# Altium schematic symbol library MOS motor driving module .SCHLIB: 17 symbols
Pins are listed as number, name and electrical type; pins without a type are passive.

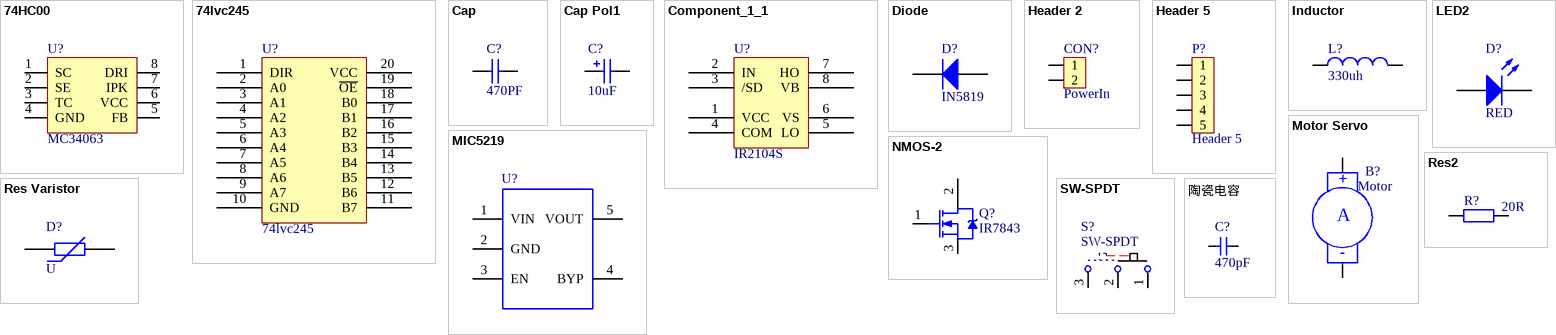
[diagram p0: symbols 74HC00 to 陶瓷电容]

## 74HC00
designator U?, comment MC34063
footprint MC34063
pins: 1 SC, 2 SE, 3 TC, 4 GND, 5 FB, 6 VCC, 7 IPK, 8 DRI

## 74lvc245
designator U?
8位5伏转3.3伏电平转换芯片
footprint 74lvc245 TSSOP
pins: 1 DIR, 2 A0, 3 A1, 4 A2, 5 A3, 6 A4, 7 A5, 8 A6, 9 A7, 10 GND, 11 B7, 12 B6, 13 B5, 14 B4, 15 B3, 16 B2, 17 B1, 18 B0, 19 ~{OE}, 20 VCC

## Cap
designator C?  value 470PF  (hidden comment: Cap)
Capacitor; Published: 8-Jun-2000; LatestRevisionDate: 17-Jul-2002; LatestRevisionNote: Re-released for DXP Platform.; PackageReference: RAD-0.3; Publisher: Altium Limited; PackageDescription: Radial Cap, Thru-Hole; 2 Leads; 0.3 in Pin Spacing
simulation model CAP (Capacitor)
signal-integrity model Cap
footprint 0805(2012)
pins: 1, 2

## Cap Pol1
designator C?  value 10uF  (hidden comment: Cap Pol1)
Polarized Capacitor (Radial); Published: 8-Jun-2000; LatestRevisionDate: 17-Jul-2002; LatestRevisionNote: Re-released for DXP Platform.; PackageReference: RB7.6-15; Publisher: Altium Limited; PackageDescription: Polarized Capacitor (Radial); 2 Leads
simulation model CAP (Capacitor)
signal-integrity model Cap Pol
footprint 1206C
pins: 1, 2
1 alternate drawing of the same symbol

## Component_1_1
designator U?, comment IR2104S
footprint IR2104 (SOIC, 8-Leads, Body 5.0x4.0mm (max), Pitch 1.27mm, IPC Medium Density)
pins: 1 VCC, 2 IN, 3 /SD, 4 COM, 5 LO, 6 VS, 7 HO, 8 VB

## Diode
designator D?, comment IN5819
Default Diode; PackageVersion: Sep-1996; PackageDescription: DO-214-AB/SMC; 2 C-Bend Leads; Body 7.9 x 5.9 mm, inc. leads (LxW); Code_JEDEC: DO-214-AB
simulation model DIODE (Diode)
footprint SMA(1206)
pins: 1 A, 2 K

## Header 2
designator CON?, comment PowerIn
Header, 2-Pin
footprint KF301-2P
pins: 1, 2

## Header 5
designator P?
Header, 5-Pin
footprint 2.54XD_5
pins: 1, 2, 3, 4, 5

## Inductor
designator L?  value 330uh  (hidden comment: Inductor)
Code_IEC: 1005; Published: 8-Jun-2000; LatestRevisionDate: 29-May-2009; LatestRevisionNote: IPC-7351 Footprint Added.; PackageReference: 0402-A; Publisher: Altium Limited; PackageDescription: Chip Inductor; Code_JEITA: 0402
simulation model INDUCTOR (Inductor)
signal-integrity model Inductor
footprint 电感8*8 (Footprint not found)
pins: 1, 2

## LED2
designator D?, comment RED
Typical RED, GREEN, YELLOW, AMBER GaAs LED; Published: 8-Jun-2000; LatestRevisionDate: 17-Jul-2002; LatestRevisionNote: Re-released for DXP Platform.; PackageVersion: Feb-2002; PackageReference: 3.2X1.6X1.1; Publisher: Altium Limited; PackageDescription: SM LED; 2 Flat Leads
footprint 0805LED
simulation model LED2 (Diode)
pins: 1 A, 2 K

## MIC5219
designator U?  (value not drawn)
LDO
footprint SOT-23-5 (SOT-23/SC-74A; 5 Leads; Body 3.1 x 3 mm, inc. leads (LxW max))
pins: 1 VIN, 2 GND, 3 EN, 4 BYP, 5 VOUT

## Motor Servo
designator B?, comment Motor
Servo Motor
footprint KF301-2P
pins: 1 +, 2 -
text: A

## NMOS-2
designator Q?, comment IR7843
N-Channel Power MOSFET; Note: Pin 2 is electrically connected to pin 4.; Published: 8-Jun-2000; LatestRevisionDate: 17-Jul-2002; LatestRevisionNote: Re-released for DXP Platform.; DatasheetVersion: PD-9.814; PackageVersion: Feb-1997; PackageReference: TO-220AB; Publisher: Altium Limited; PackageDescription: TO, Thru-Hole, Vertical, Heatsink Mounted; 3 In-Line Leads; Pitch 2.54 mm; ComponentLink1Description: Manufacturer Link; ComponentLink1URL: http://www.irf.com/
simulation model IRF1010 (Spice Subcircuit)
footprint LR7843
pins: 1 G, 2 D, 3 S

## Res2
designator R?  value 20R  (hidden comment: Res2)
Resistor; Published: 8-Jun-2000; LatestRevisionDate: 17-Jul-2002; LatestRevisionNote: Re-released for DXP Platform.; PackageReference: AXIAL-0.4; Publisher: Altium Limited; PackageDescription: Axial Device, Thru-Hole; 2 Leads; 0.4 in Pin Spacing
simulation model RESISTOR (Resistor)
signal-integrity model Res
footprint 0603
pins: 1, 2

## Res Varistor
designator D?, comment U
Varistor (Voltage-Sensitive Resistor); Published: 24-Mar-1999; LatestRevisionDate: 29-May-2009; LatestRevisionNote: IPC-7351 Footprint Added.; PackageVersion: Mar-2003; PackageReference: 6-0805; Publisher: Altium Limited; PackageDescription: Chip Resistor 0805 Case Size; Code_IPC: RESC2012
footprint 6-0805_L (Chip Resistor, Body 2.0x1.2mm, IPC High Density)
footprint 6-0805_M (Chip Resistor, Body 2.0x1.2mm, IPC Low Density)
footprint 0805(2012)
pins: 1, 2

## SW-SPDT
designator S?
SPDT Subminiature Toggle Switch, Right Angle Mounting, Vertical Actuation
footprint SWICH_2
pins: 1, 2, 3

## 陶瓷电容
designator C?, comment 470pF
CAP
footprint 0603
footprint 0805
footprint 0402
pins: 1, 2